# Altium footprint library Digital_Microcontrollers_STM32_SMD.PcbLib: 1 footprints
Each footprint in its own frame and in the unit in brackets; x right, y up, seen from the top. Pads: shape width x height; smd on the part's side, far side on the other; paste and mask are expansions set on the pad; w line width, h text height; cw(c..) or ccw(c..) is an arc to the next point about the centre after c.
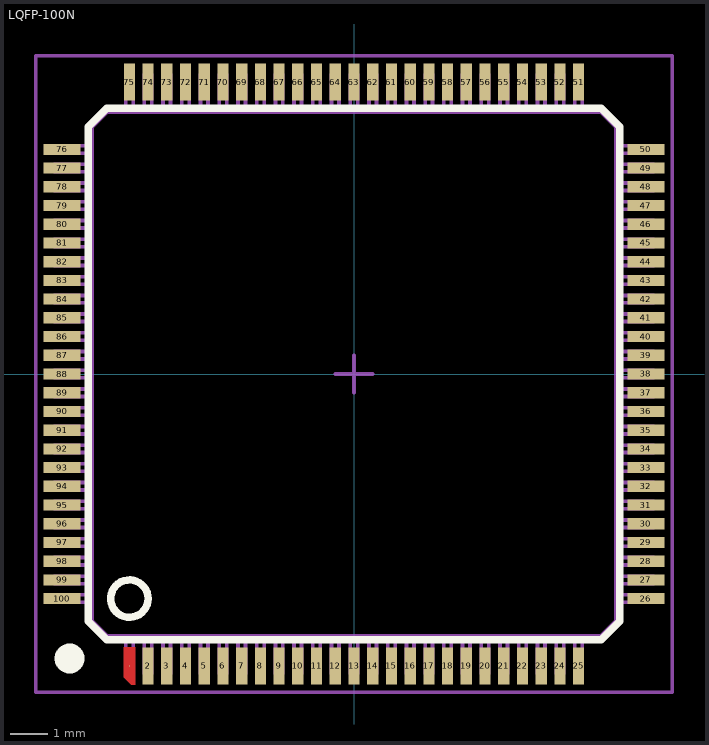
[diagram p0: the footprint, top view; thin cyan lines are the x and y axes]

## LQFP-100N [mm]
height 1.27
pads (100):
  round 0.025 smd: 1(-6,-7.8)
  rect 0.3x1 smd: 2(-5.5,-7.8) 3(-5,-7.8) 4(-4.5,-7.8) 5(-4,-7.8) 6(-3.5,-7.8) 7(-3,-7.8) 8(-2.5,-7.8) 9(-2,-7.8) 10(-1.5,-7.8) 11(-1,-7.8) 12(-0.5,-7.8) 13(0,-7.8) 14(0.5,-7.8) 15(1,-7.8) 16(1.5,-7.8) 17(2,-7.8) 18(2.5,-7.8) 19(3,-7.8) 20(3.5,-7.8) 21(4,-7.8) 22(4.5,-7.8) 23(5,-7.8) 24(5.5,-7.8) 25(6,-7.8) 51(6,7.8) 52(5.5,7.8) 53(5,7.8) 54(4.5,7.8) 55(4,7.8) 56(3.5,7.8) 57(3,7.8) 58(2.5,7.8) 59(2,7.8) 60(1.5,7.8) 61(1,7.8) 62(0.5,7.8) 63(0,7.8) 64(-0.5,7.8) 65(-1,7.8) 66(-1.5,7.8) 67(-2,7.8) 68(-2.5,7.8) 69(-3,7.8) 70(-3.5,7.8) 71(-4,7.8) 72(-4.5,7.8) 73(-5,7.8) 74(-5.5,7.8) 75(-6,7.8)
  rect 1x0.3 smd: 26(7.8,-6) 27(7.8,-5.5) 28(7.8,-5) 29(7.8,-4.5) 30(7.8,-4) 31(7.8,-3.5) 32(7.8,-3) 33(7.8,-2.5) 34(7.8,-2) 35(7.8,-1.5) 36(7.8,-1) 37(7.8,-0.5) 38(7.8,0) 39(7.8,0.5) 40(7.8,1) 41(7.8,1.5) 42(7.8,2) 43(7.8,2.5) 44(7.8,3) 45(7.8,3.5) 46(7.8,4) 47(7.8,4.5) 48(7.8,5) 49(7.8,5.5) 50(7.8,6) 76(-7.8,6) 77(-7.8,5.5) 78(-7.8,5) 79(-7.8,4.5) 80(-7.8,4) 81(-7.8,3.5) 82(-7.8,3) 83(-7.8,2.5) 84(-7.8,2) 85(-7.8,1.5) 86(-7.8,1) 87(-7.8,0.5) 88(-7.8,0) 89(-7.8,-0.5) 90(-7.8,-1) 91(-7.8,-1.5) 92(-7.8,-2) 93(-7.8,-2.5) 94(-7.8,-3) 95(-7.8,-3.5) 96(-7.8,-4) 97(-7.8,-4.5) 98(-7.8,-5) 99(-7.8,-5.5) 100(-7.8,-6)
Top Layer:
  region: -6.15,-7.3 -5.85,-7.3 -5.85,-8.3 -5.955,-8.3 -6.15,-8.105
Top Overlay:
  circle w0.2: c-6,-6 r0.5
  circle w0.4: c-7.6,-7.6 r0.2
  lines w0.2: -7.1,-6.6 -6.6,-7.1 6.6,-7.1 7.1,-6.6 7.1,6.6 6.6,7.1 -6.6,7.1 -7.1,6.6 -7.1,-6.6
Top Package:
  drawing of 309 lines, arcs and shapes, not listed
Top Comment:
  text ".Comment" at -2.128,-0.474 h1.5
Top Designator:
  text ".Designator" at -3.438,-0.451 h2
Top Border:
  lines w0.1: -0.5,0 0.5,0 ; 0,-0.5 0,0.5 ; -8.5,-8.5 -8.5,8.5 8.5,8.5 8.5,-8.5 -8.5,-8.5
3D body "User Library-lqfp100-1.step": height 1.5, standoff 0.02, extent -8,-8 8,8